# Altium schematic symbol library LinearIC.SchLib: 17 symbols
Pins are listed as number, name and electrical type; pins without a type are passive.

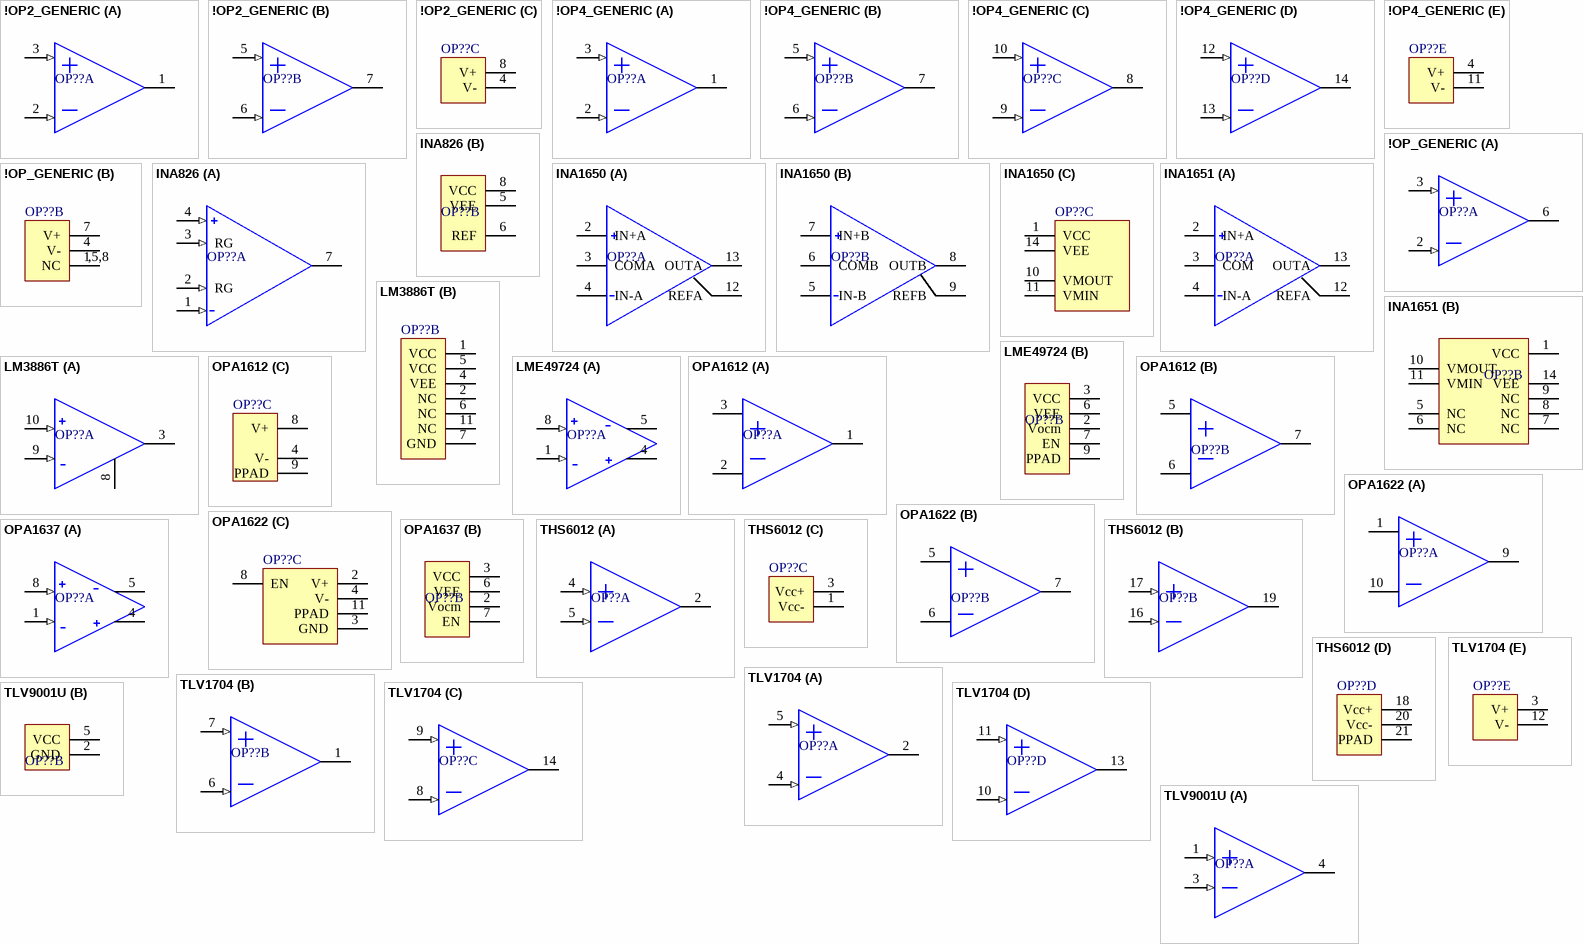
[diagram p0: symbols !OP2_GENERIC to TLV9001U]

## !OP2_GENERIC
designator OP??
part A pins: 1, 2 (in), 3 (in)
part B pins: 5 (in), 6 (in), 7
part C pins: 4 V-, 8 V+

## !OP4_GENERIC
designator OP??
part A pins: 1, 2 (in), 3 (in)
part B pins: 5 (in), 6 (in), 7
part C pins: 8, 9 (in), 10 (in)
part D pins: 12 (in), 13 (in), 14
part E pins: 4 V+, 11 V-

## !OP_GENERIC
designator OP??
part A pins: 2 (in), 3 (in), 6
part B pins: 1 NC (power), 4 V-, 5 (power), 7 V+, 8 (power)
part B text: ,5,8

## INA826
designator OP??
part A pins: 1 (in), 2 RG (in), 3 RG (in), 4 (in), 7
part B pins: 5 VEE, 6 REF (power), 8 VCC

## INA1650
designator OP??
part A pins: 2 IN+A, 3 COMA, 4 IN-A, 12 REFA, 13 OUTA
part B pins: 5 IN-B, 6 COMB, 7 IN+B, 8 OUTB, 9 REFB
part C pins: 1 VCC, 10 VMOUT, 11 VMIN, 14 VEE

## INA1651
designator OP??
part A pins: 2 IN+A, 3 COM, 4 IN-A, 12 REFA, 13 OUTA
part B pins: 1 VCC, 5 NC, 6 NC, 7 NC, 8 NC, 9 NC, 10 VMOUT, 11 VMIN, 14 VEE

## LM3886T
designator OP??
part A pins: 3, 8, 9 (in), 10 (in)
part B pins: 1 VCC, 2 NC, 4 VEE, 5 VCC, 6 NC, 7 GND, 11 NC

## LME49724
designator OP??
part A pins: 1 (in), 4, 5, 8 (in)
part B pins: 2 Vocm, 3 VCC, 6 VEE, 7 EN, 9 PPAD

## OPA1612
designator OP??
part A pins: 1 OUTA, 2 -INA, 3 +INA
part B pins: 5 +INB, 6 -INB, 7 OUTB
part C pins: 4 V-, 8 V+, 9 PPAD

## OPA1622
designator OP??
part A pins: 1 +INA, 9 OUTA, 10 -INA
part B pins: 5 +INB, 6 -INB, 7 OUTB
part C pins: 2 V+, 3 GND, 4 V-, 8 EN, 11 PPAD

## OPA1637
designator OP??
part A pins: 1 (in), 4, 5, 8 (in)
part B pins: 2 Vocm, 3 VCC, 6 VEE, 7 EN

## THS6012
designator OP??
part A pins: 2, 4 (in), 5 (in)
part B pins: 16 (in), 17 (in), 19
part C pins: 1 Vcc- (power), 3 Vcc+ (power)
part D pins: 6, 7, 8, 9, 10, 11, 12, 13, 14, 15, 18 Vcc+ (power), 20 Vcc- (power), 21 PPAD

## TLV1704
designator OP??
part A pins: 2, 4 (in), 5 (in)
part B pins: 1, 6 (in), 7 (in)
part C pins: 8 (in), 9 (in), 14
part D pins: 10 (in), 11 (in), 13
part E pins: 3 V+, 12 V-

## TLV9001U
designator OP??
part A pins: 1 (in), 3 (in), 4
part B pins: 2 GND, 5 VCC

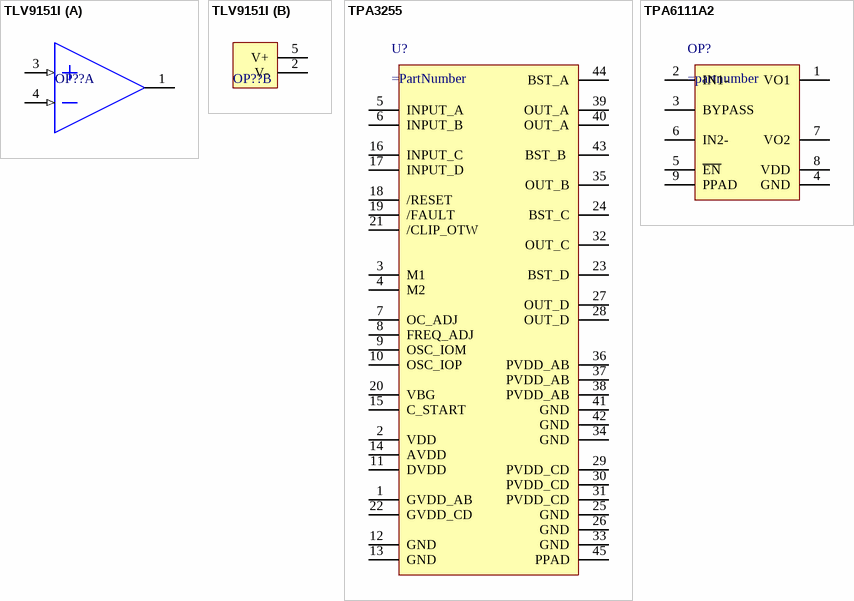
[diagram p1: symbols TLV9151I to TPA6111A2]

## TLV9151I
designator OP??
part A pins: 1, 3 (in), 4 (in)
part B pins: 2 V-, 5 V+

## TPA3255
designator U?
pins: 1 GVDD_AB, 2 VDD , 3 M1, 4 M2, 5 INPUT_A, 6 INPUT_B, 7 OC_ADJ, 8 FREQ_ADJ, 9 OSC_IOM, 10 OSC_IOP, 11 DVDD, 12 GND , 13 GND , 14 AVDD , 15 C_START , 16 INPUT_C, 17 INPUT_D, 18 /RESET , 19 /FAULT , 20 VBG , 21 /CLIP_OTW, 22 GVDD_CD, 23 BST_D, 24 BST_C, 25 GND, 26 GND, 27 OUT_D, 28 OUT_D, 29 PVDD_CD, 30 PVDD_CD, 31 PVDD_CD, 32 OUT_C, 33 GND, 34 GND, 35 OUT_B, 36 PVDD_AB, 37 PVDD_AB, 38 PVDD_AB, 39 OUT_A, 40 OUT_A, 41 GND, 42 GND, 43 BST_B , 44 BST_A, 45 PPAD

## TPA6111A2
designator OP?
pins: 1 VO1, 2 IN1-, 3 BYPASS, 4 GND, 5 ~{EN}, 6 IN2-, 7 VO2, 8 VDD, 9 PPAD